# Altium schematic symbol library Driver_Display.SchLib: 10 symbols
Pins are listed as number, name and electrical type; pins without a type are passive.

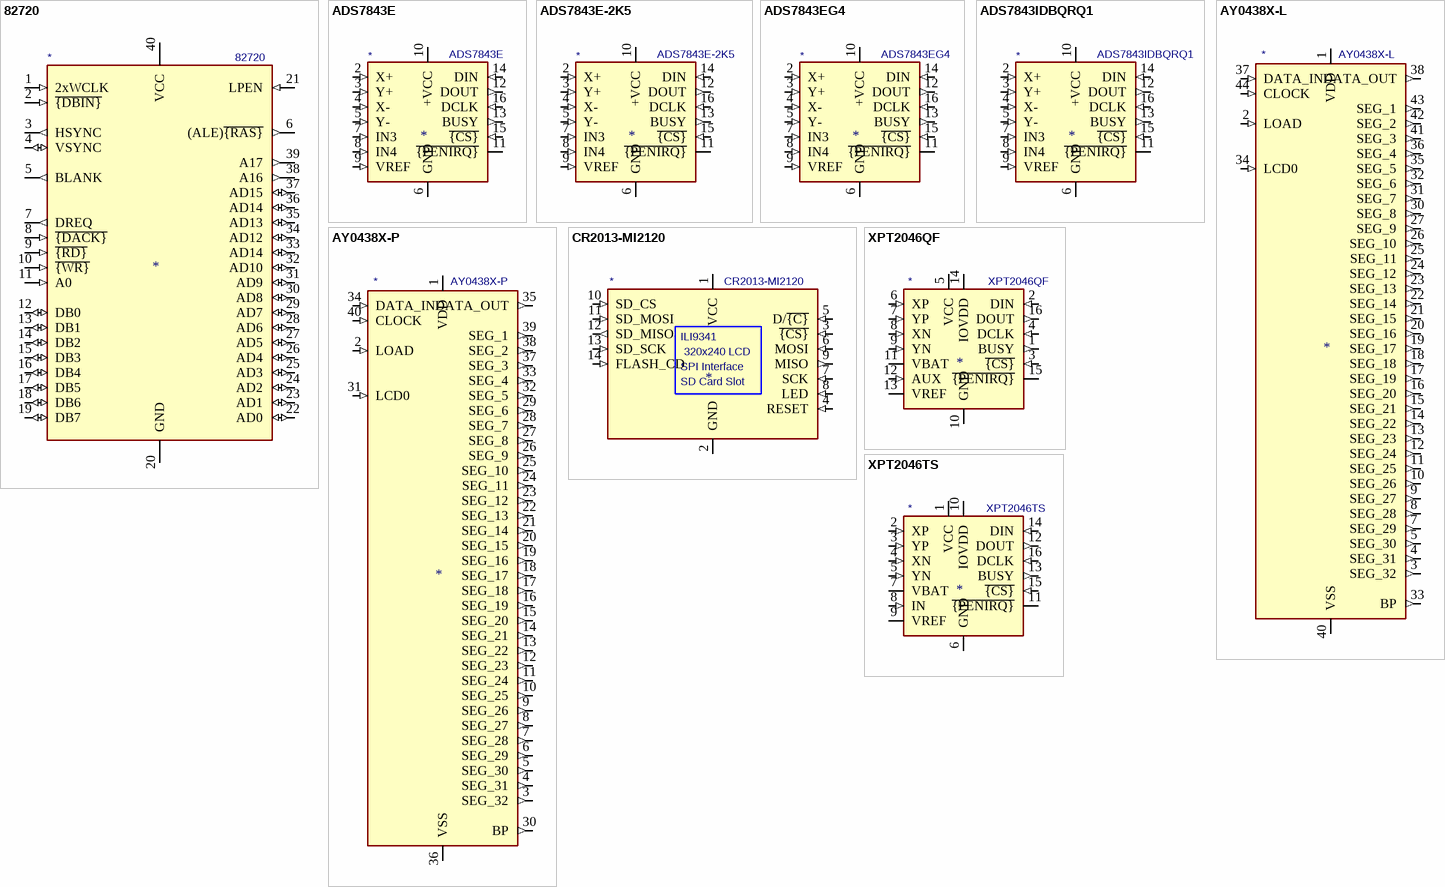
[diagram p0: symbols 82720 to XPT2046TS]

## 82720
designator *  value 82720
ki_keywords: Graphics Controller; ki_description: Graphics Display Controller, PDIP-40; ki_fp_filters: DIP*W15.24mm*; Footprint: Package_DIP:DIP-40_W15.24mm
footprint DIP-40_W15.24mm
pins: 1 2xWCLK (in), 2 ~{{DBIN}} (in), 3 HSYNC (out), 4 VSYNC (io), 5 BLANK (out), 6 (ALE)~{{RAS}} (out), 7 DREQ (out), 8 ~{{DACK}} (in), 9 ~{{RD}} (in), 10 ~{{WR}} (in), 11 A0 (in), 12 DB0 (io), 13 DB1 (io), 14 DB2 (io), 15 DB3 (io), 16 DB4 (io), 17 DB5 (io), 18 DB6 (io), 19 DB7 (io), 20 GND (power), 21 LPEN (in), 22 AD0 (io), 23 AD1 (io), 24 AD2 (io), 25 AD3 (io), 26 AD4 (io), 27 AD5 (io), 28 AD6 (io), 29 AD7 (io), 30 AD8 (io), 31 AD9 (io), 32 AD10 (io), 33 AD14 (io), 34 AD12 (io), 35 AD13 (io), 36 AD14 (io), 37 AD15 (io), 38 A16 (out), 39 A17 (out), 40 VCC (power)

## ADS7843E
designator *  value ADS7843E
ki_keywords: Single-supply, 12bit, 4 ch, touch screen driver, 2.2 - 5.25 VDD, -40 to +85 C, QSPI, SPI, 3-wire serial interface, SSOP-16; ki_fp_filters: *SSOP*3.9x4.9mm*P0.635mm*; Footprint: Package_SO:SSOP-16_3.9x4.9mm_P0.635mm; Supplier: http://www.ti.com/lit/ds/symlink/ads7843.pdf; ki_description: Single-supply, 12bit, 4 ch, touch screen driver, 2.2 - 5.25 VDD, -40 to +85 C, QSPI, SPI, 3-wire serial interface, SSOP-16
footprint SSOP-16_3.9x4.9mm_P0.635mm
pins: 1 +VCC hidden, 2 X+ (in), 3 Y+ (in), 4 X- (in), 5 Y- (in), 6 GND (power), 7 IN3 (in), 8 IN4 (in), 9 VREF (in), 10 +VCC (power), 11 ~{{PENIRQ}} (oc), 12 DOUT (out), 13 BUSY (out), 14 DIN (in), 15 ~{{CS}} (in), 16 DCLK (in)

## ADS7843E-2K5
designator *  value ADS7843E-2K5
ki_keywords: Single-supply, 12bit, 4 ch, touch screen driver, 2.2 - 5.25 VDD, -40 to +85 C, QSPI, SPI, 3-wire serial interface, SSOP-16; ki_fp_filters: *SSOP*3.9x4.9mm*P0.635mm*; Footprint: Package_SO:SSOP-16_3.9x4.9mm_P0.635mm; Supplier: http://www.ti.com/lit/ds/symlink/ads7843.pdf; ki_description: Single-supply, 12bit, 4 ch, touch screen driver, 2.2 - 5.25 VDD, -40 to +85 C, QSPI, SPI, 3-wire serial interface, SSOP-16
footprint SSOP-16_3.9x4.9mm_P0.635mm
pins: 1 +VCC hidden, 2 X+ (in), 3 Y+ (in), 4 X- (in), 5 Y- (in), 6 GND (power), 7 IN3 (in), 8 IN4 (in), 9 VREF (in), 10 +VCC (power), 11 ~{{PENIRQ}} (oc), 12 DOUT (out), 13 BUSY (out), 14 DIN (in), 15 ~{{CS}} (in), 16 DCLK (in)

## ADS7843EG4
designator *  value ADS7843EG4
ki_keywords: Single-supply, 12bit, 4 ch, touch screen driver, 2.2 - 5.25 VDD, -40 to +85 C, QSPI, SPI, 3-wire serial interface, SSOP-16; ki_fp_filters: *SSOP*3.9x4.9mm*P0.635mm*; Footprint: Package_SO:SSOP-16_3.9x4.9mm_P0.635mm; Supplier: http://www.ti.com/lit/ds/symlink/ads7843.pdf; ki_description: Single-supply, 12bit, 4 ch, touch screen driver, 2.2 - 5.25 VDD, -40 to +85 C, QSPI, SPI, 3-wire serial interface, SSOP-16
footprint SSOP-16_3.9x4.9mm_P0.635mm
pins: 1 +VCC hidden, 2 X+ (in), 3 Y+ (in), 4 X- (in), 5 Y- (in), 6 GND (power), 7 IN3 (in), 8 IN4 (in), 9 VREF (in), 10 +VCC (power), 11 ~{{PENIRQ}} (oc), 12 DOUT (out), 13 BUSY (out), 14 DIN (in), 15 ~{{CS}} (in), 16 DCLK (in)

## ADS7843IDBQRQ1
designator *  value ADS7843IDBQRQ1
ki_keywords: Single-supply, 12bit, 4 ch, touch screen driver, 2.2 - 5.25 VDD, -40 to +125 C, QSPI, SPI, 3-wire serial interface, SSOP-16; ki_fp_filters: *SSOP*3.9x4.9mm*P0.635mm*; Footprint: Package_SO:SSOP-16_3.9x4.9mm_P0.635mm; Supplier: http://www.ti.com/lit/ds/symlink/ads7843-q1.pdf; ki_description: Single-supply, 12bit, 4 ch, touch screen driver, 2.2 - 5.25 VDD, -40 to +125 C, QSPI, SPI, 3-wire serial interface, SSOP-16
footprint SSOP-16_3.9x4.9mm_P0.635mm
pins: 1 +VCC hidden, 2 X+ (in), 3 Y+ (in), 4 X- (in), 5 Y- (in), 6 GND (power), 7 IN3 (in), 8 IN4 (in), 9 VREF (in), 10 +VCC (power), 11 ~{{PENIRQ}} (oc), 12 DOUT (out), 13 BUSY (out), 14 DIN (in), 15 ~{{CS}} (in), 16 DCLK (in)

## AY0438X-L
designator *  value AY0438X-L
ki_keywords: driver display; ki_description: 32-Segment CMOS LCD Driver, CMOS and TTL-compatible inputs, VDD +3.0V to +8.5V, PLCC-44; ki_fp_filters: PLCC*; Footprint: Package_LCC:PLCC-44; Supplier: http://www.farnell.com/datasheets/43336.pdf
footprint PLCC-44
pins: 1 VDD (power), 2 LOAD (in), 3 SEG_32 (out), 4 SEG_31 (out), 5 SEG_30 (out), 6 NC (in) hidden, 7 SEG_29 (out), 8 SEG_28 (out), 9 SEG_27 (out), 10 SEG_26 (out), 11 SEG_25 (out), 12 SEG_24 (out), 13 SEG_23 (out), 14 SEG_22 (out), 15 SEG_21 (out), 16 SEG_20 (out), 17 SEG_19 (out), 18 SEG_18 (out), 19 SEG_17 (out), 20 SEG_16 (out), 21 SEG_15 (out), 22 SEG_14 (out), 23 SEG_13 (out), 24 SEG_12 (out), 25 SEG_11 (out), 26 SEG_10 (out), 27 SEG_9 (out), 28 NC (in) hidden, 29 NC (in) hidden, 30 SEG_8 (out), 31 SEG_7 (out), 32 SEG_6 (out), 33 BP (out), 34 LCD0 (in), 35 SEG_5 (out), 36 SEG_4 (out), 37 DATA_IN (in), 38 DATA_OUT (out), 39 NC (in) hidden, 40 VSS (power), 41 SEG_3 (out), 42 SEG_2 (out), 43 SEG_1 (out), 44 CLOCK (in)

## AY0438X-P
designator *  value AY0438X-P
ki_keywords: driver display; ki_description: 32-Segment CMOS LCD Driver, CMOS and TTL-compatible inputs, VDD +3.0V to +8.5V, DIP-40; ki_fp_filters: DIP*W15.24mm*; Footprint: Package_DIP:DIP-40_W15.24mm; Supplier: http://www.farnell.com/datasheets/43336.pdf
footprint DIP-40_W15.24mm
pins: 1 VDD (power), 2 LOAD (in), 3 SEG_32 (out), 4 SEG_31 (out), 5 SEG_30 (out), 6 SEG_29 (out), 7 SEG_28 (out), 8 SEG_27 (out), 9 SEG_26 (out), 10 SEG_25 (out), 11 SEG_24 (out), 12 SEG_23 (out), 13 SEG_22 (out), 14 SEG_21 (out), 15 SEG_20 (out), 16 SEG_19 (out), 17 SEG_18 (out), 18 SEG_17 (out), 19 SEG_16 (out), 20 SEG_15 (out), 21 SEG_14 (out), 22 SEG_13 (out), 23 SEG_12 (out), 24 SEG_11 (out), 25 SEG_10 (out), 26 SEG_9 (out), 27 SEG_8 (out), 28 SEG_7 (out), 29 SEG_6 (out), 30 BP (out), 31 LCD0 (in), 32 SEG_5 (out), 33 SEG_4 (out), 34 DATA_IN (in), 35 DATA_OUT (out), 36 VSS (power), 37 SEG_3 (out), 38 SEG_2 (out), 39 SEG_1 (out), 40 CLOCK (in)

## CR2013-MI2120
designator *  value CR2013-MI2120
ki_keywords: driver display; ki_description: ILI9341 controller, SPI TFT LCD Display, 9-pin breakout PCB, 4-pin SD card interface, 5V/3.3V; ki_fp_filters: *CR2013*MI2120*; Footprint: Display:CR2013-MI2120; Supplier: http://pan.baidu.com/s/11Y990
footprint CR2013-MI2120
pins: 1 VCC (power), 2 GND (power), 3 ~{{CS}} (in), 4 RESET (in), 5 D/~{{C}} (in), 6 MOSI (in), 7 SCK (in), 8 LED (in), 9 MISO (out), 10 SD_CS (in), 11 SD_MOSI (in), 12 SD_MISO (out), 13 SD_SCK (in), 14 FLASH_CD (in)
text: ILI9341; 320x240 LCD; SPI Interface; SD Card Slot

## XPT2046QF
designator *  value XPT2046QF
ki_keywords: Single-supply, 12bit, 4 ch, touch screen driver, 2.2 - 5.25 VDD, -40 to +85 C, QSPI, SPI, 3-wire serial interface, QFN-16; ki_fp_filters: *QFN*1EP*4x4mm*P0.65mm*; Footprint: Package_DFN_QFN:QFN-16-1EP_4x4mm_P0.65mm_EP2.1x2.1mm; Supplier: http://www.xptek.cn/uploadfile/download/201707171401161883.pdf; ki_description: Single-supply, 12bit, 4 ch, touch screen driver, 2.2 - 5.25 VDD, -40 to +85 C, QSPI, SPI, 3-wire serial interface, QFN-16
footprint QFN-16-1EP_4x4mm_P0.65mm_EP2.1x2.1mm
pins: 1 BUSY (out), 2 DIN (in), 3 ~{{CS}} (in), 4 DCLK (in), 5 VCC (power), 6 XP (in), 7 YP (in), 8 XN (in), 9 YN (in), 10 GND (power), 11 VBAT (power), 12 AUX (in), 13 VREF (io), 14 IOVDD (power), 15 ~{{PENIRQ}} (oc), 16 DOUT (out), 17 NC (in) hidden

## XPT2046TS
designator *  value XPT2046TS
ki_keywords: Single-supply, 12bit, 4 ch, touch screen driver, 2.2 - 5.25 VDD, -40 to +85 C, QSPI, SPI, 3-wire serial interface, TSSOP-16; ki_fp_filters: *TSSOP*4.4x5mm*P0.65mm*; Footprint: Package_SO:TSSOP-16_4.4x5mm_P0.65mm; Supplier: http://www.xptek.cn/uploadfile/download/201707171401161883.pdf; ki_description: Single-supply, 12bit, 4 ch, touch screen driver, 2.2 - 5.25 VDD, -40 to +85 C, QSPI, SPI, 3-wire serial interface, TSSOP-16
footprint TSSOP-16_4.4x5mm_P0.65mm
pins: 1 VCC (power), 2 XP (in), 3 YP (in), 4 XN (in), 5 YN (in), 6 GND (power), 7 VBAT (power), 8 IN (in), 9 VREF (io), 10 IOVDD (power), 11 ~{{PENIRQ}} (oc), 12 DOUT (out), 13 BUSY (out), 14 DIN (in), 15 ~{{CS}} (in), 16 DCLK (in)